# Altium footprint library MENTOR THD.PcbLib: 8 footprints
Each footprint in its own frame and in the unit in brackets; x right, y up, seen from the top. Pads: shape width x height; smd on the part's side, far side on the other; paste and mask are expansions set on the pad; w line width, h text height; cw(c..) or ccw(c..) is an arc to the next point about the centre after c.
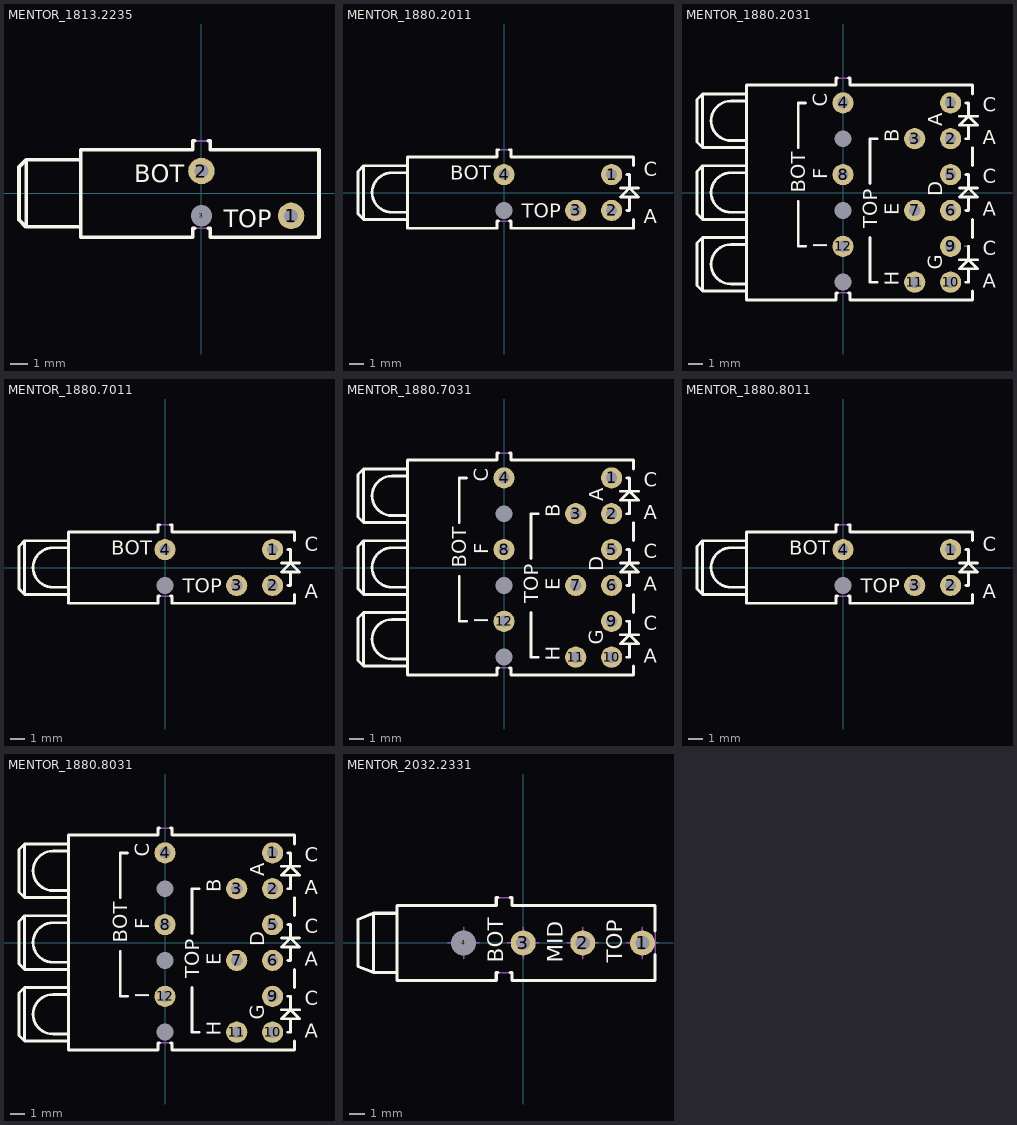
[diagram p0: the footprints below, top view; thin cyan lines are the x and y axes]

## MENTOR_1813.2235 [mm] "2 x Right Angled Test Jack 2mm"
height 9.95
pads (3):
  round 1.5 hole 0.8: 1(5.08,-1.27) 2(0,1.27)
  round 0.5 hole 1.2 unplated mask+0.35: 3(0,-1.27)
Top Overlay:
  lines w0.2: -6.84,-1.9 -9.94,-1.9 ; -6.84,1.9 -9.94,1.9 ; -0.39,-1.975 -0.5,-1.975 -0.5,-2.475 -6.84,-2.475 -6.84,2.475 -0.5,2.475 -0.5,2.975 -0.39,2.975 ; 0.39,-1.975 0.5,-1.975 0.5,-2.475 6.66,-2.475 6.66,2.475 0.5,2.475 0.5,2.975 0.39,2.975 ; -9.94,-1.9 -9.94,1.9 ; -9.94,-1.9 -10.34,-1.5 -10.34,1.5 -9.94,1.9
  text "TOP" at 1.27,-1.905 h1
  text "BOT" at -3.81,0.635 h1
Mechanical 14:
  lines w0.1: -6.84,-1.9 -9.94,-1.9 ; -6.84,1.9 -9.94,1.9 ; -9.94,-1.9 -9.94,1.9 ; -9.94,-1.9 -10.34,-1.5 -10.34,1.5 -9.94,1.9 ; -0.5,2.975 0.5,2.975 ; -0.5,2.975 -0.5,2.475 -6.84,2.475 -6.84,-2.475 -0.5,-2.475 -0.5,-1.975 0.5,-1.975 0.5,-2.475 6.66,-2.475 6.66,2.475 0.5,2.475 0.5,2.975 ; -0.5,2.975 0.5,2.975
3D body "MENTOR_1813.2235.stp": height 9.95, standoff -3.2, extent -10.3,-2.4 6.7,3.05

## MENTOR_1880.2011 [mm] "2 x Test Jack 2mm + 1 x Red LED 3mm PCB Edge Mounting"
height 15
pads (5):
  round 1.5 hole 0.8: 1(7.62,1.27) 2(7.62,-1.27) 3(5.08,-1.27) 4(0,1.27)
  round 0.5 hole 1.2 unplated mask+0.35: 5(0,-1.27)
Top Overlay:
  lines w0.2: -6.84,-1.9 -9.94,-1.9 ; -6.84,-1.4 -7.94,-1.4 cw(c-7.94,0) -7.94,1.4 -6.84,1.4 ; -6.84,1.9 -9.94,1.9 ; -0.39,-2.025 -0.5,-2.025 -0.5,-2.525 -6.84,-2.525 -6.84,2.525 -0.5,2.525 -0.5,3.025 -0.39,3.025 ; 0.39,-2.025 0.5,-2.025 0.5,-2.525 9.16,-2.525 9.16,-1.905 ; 0.39,3.025 0.5,3.025 0.5,2.525 9.16,2.525 9.16,1.905 ; 8.255,0.318 9.525,0.318 ; 8.72,-1.27 8.89,-1.27 8.89,-0.318 ; 8.72,1.27 8.89,1.27 8.89,0.318 ; -9.94,-1.9 -9.94,1.9 ; -9.94,-1.9 -10.34,-1.5 -10.34,1.5 -9.94,1.9 ; 8.89,0.318 8.255,-0.318 9.525,-0.318 8.89,0.318
  text "BOT" at -3.81,0.889 h1
  text "TOP" at 1.27,-1.778 h1
  text "A" at 9.906,-2.159 h1
  text "C" at 9.906,1.143 h1
Mechanical 14:
  lines w0.1: -6.84,-1.9 -9.94,-1.9 ; -6.84,1.9 -9.94,1.9 ; 8.255,0.318 9.525,0.318 ; 8.573,-1.27 8.89,-1.27 ; 8.573,1.27 8.89,1.27 8.89,0.318 ; 8.62,-1.27 8.89,-1.27 ; 8.89,-0.318 8.89,-1.27 ; 9.16,-1.905 9.16,-2.525 0.5,-2.525 0.5,-2.025 -0.5,-2.025 -0.5,-2.525 -6.84,-2.525 -6.84,2.525 -0.5,2.525 -0.5,3.025 0.5,3.025 0.5,2.525 9.16,2.525 9.16,1.905 ; -9.94,-1.9 -9.94,1.9 ; -9.94,-1.9 -10.34,-1.5 -10.34,1.5 -9.94,1.9 ; -7.94,-1.4 cw(c-7.94,0) -7.94,1.4 ; -7.94,-1.4 -6.84,-1.4 -7.94,-1.4 ; -7.94,1.4 -6.84,1.4 -7.94,1.4 ; 8.89,0.318 8.255,-0.318 9.525,-0.318 8.89,0.318
  text "A" at 9.906,-2.159 h1
  text "TOP" at 1.27,-1.778 h1
  text "BOT" at -3.81,0.889 h1
  text "C" at 9.906,1.143 h1
3D body "MENTOR_1880.2011.stp": height 15, standoff -3.2, extent -10.3,-2.575 9.2,2.975

## MENTOR_1880.2031 [mm] "6 x Test Jack 2mm + 3 x Red LED 3mm PCB Edge Mounting"
height 15
pads (15):
  round 1.5 hole 0.8: 1(7.62,6.35) 2(7.62,3.81) 3(5.08,3.81) 4(0,6.35) 5(7.62,1.27) 6(7.62,-1.27) 7(5.08,-1.27) 8(0,1.27) 9(7.62,-3.81) 10(7.62,-6.35) 11(5.08,-6.35) 12(0,-3.81)
  round 0.5 hole 1.2 unplated mask+0.35: 13(0,3.81) 14(0,-1.27) 15(0,-6.35)
Top Overlay:
  lines w0.2: -6.84,-6.98 -9.94,-6.98 ; -6.84,-6.48 -7.94,-6.48 cw(c-7.94,-5.08) -7.94,-3.68 -6.84,-3.68 ; -6.84,-3.18 -9.94,-3.18 ; -6.84,-1.9 -9.94,-1.9 ; -6.84,-1.4 -7.94,-1.4 cw(c-7.94,0) -7.94,1.4 -6.84,1.4 ; -6.84,1.9 -9.94,1.9 ; -6.84,3.18 -9.94,3.18 ; -6.84,3.68 -7.94,3.68 cw(c-7.94,5.08) -7.94,6.48 -6.84,6.48 ; -6.84,6.98 -9.94,6.98 ; -3.175,-0.635 -3.175,-3.81 -2.667,-3.81 ; -3.175,3.175 -3.175,6.35 -2.667,6.35 ; -0.39,-7.105 -0.5,-7.105 -0.5,-7.605 -6.84,-7.605 -6.84,7.605 -0.5,7.605 -0.5,8.105 -0.39,8.105 ; 0.39,-7.105 0.5,-7.105 0.5,-7.605 9.16,-7.605 9.16,-6.985 ; 0.39,8.105 0.5,8.105 0.5,7.605 9.16,7.605 9.16,6.985 ; 1.905,-3.175 1.905,-6.35 2.413,-6.35 ; 1.905,0.635 1.905,3.81 2.413,3.81 ; 8.255,-4.762 9.525,-4.762 ; 8.255,0.318 9.525,0.318 ; 8.255,5.398 9.525,5.398 ; 8.72,-6.35 8.89,-6.35 8.89,-5.398 ; 8.72,-1.27 8.89,-1.27 8.89,-0.318 ; 8.72,1.27 8.89,1.27 8.89,0.318 ; 8.72,3.81 8.89,3.81 8.89,4.762 ; 8.72,6.35 8.89,6.35 8.89,5.398 ; 8.89,-3.81 8.89,-4.762 ; 9.16,-3.175 9.16,-1.905 ; 9.16,1.905 9.16,3.175 ; -9.94,-6.98 -9.94,-3.18 ; -9.94,-6.98 -10.34,-6.58 -10.34,-3.58 -9.94,-3.18 ; -9.94,-1.9 -10.34,-1.5 -10.34,1.5 -9.94,1.9 ; -9.94,-1.9 -9.94,1.9 ; -9.94,3.18 -9.94,6.98 ; -9.94,3.18 -10.34,3.58 -10.34,6.58 -9.94,6.98 ; 8.89,-4.762 8.255,-5.398 9.525,-5.398 8.89,-4.762 ; 8.89,0.318 9.525,-0.318 8.255,-0.318 8.89,0.318 ; 8.89,5.398 8.255,4.762 9.525,4.762 8.89,5.398
  text "BOT" at -2.667,0 h1
  text "C" at -1.116,6.091 h1
  text "I" at -1.116,-3.942 h1
  text "F" at -1.116,0.932 h1
  text "C" at 9.906,0.643 h1
  text "A" at 9.906,-1.659 h1
  text "E" at 3.964,-1.608 h1
  text "H" at 3.964,-6.609 h1
  text "A" at 9.906,-6.739 h1
  text "C" at 9.906,-4.437 h1
  text "B" at 3.964,3.551 h1
  text "A" at 9.906,3.421 h1
  text "C" at 9.906,5.723 h1
  text "A" at 7.012,4.695 h1
  text "D" at 7.012,-0.258 h1
  text "G" at 7.012,-5.465 h1
  text "TOP" at 2.413,-2.54 h1
Mechanical 14:
  lines w0.1: -6.84,-6.98 -9.94,-6.98 ; -6.84,-3.18 -9.94,-3.18 ; -6.84,-1.9 -9.94,-1.9 ; -6.84,1.9 -9.94,1.9 ; -6.84,3.18 -9.94,3.18 ; -6.84,6.98 -9.94,6.98 ; -3.175,-0.635 -3.175,-3.81 -2.667,-3.81 ; -3.175,3.175 -3.175,6.35 -2.667,6.35 ; 1.905,-3.175 1.905,-6.35 2.413,-6.35 ; 1.905,0.635 1.905,3.81 2.413,3.81 ; 8.255,-4.762 9.525,-4.762 ; 8.255,0.318 9.525,0.318 ; 8.255,5.398 9.525,5.398 ; 8.573,-6.35 8.89,-6.35 ; 8.573,-3.81 8.89,-3.81 8.89,-4.762 ; 8.573,-1.27 8.89,-1.27 ; 8.573,1.27 8.89,1.27 8.89,0.318 ; 8.573,3.81 8.89,3.81 ; 8.573,6.35 8.89,6.35 8.89,5.398 ; 8.62,-6.35 8.89,-6.35 ; 8.62,-1.27 8.89,-1.27 ; 8.62,3.81 8.89,3.81 ; 8.89,-5.398 8.89,-6.35 ; 8.89,-0.318 8.89,-1.27 ; 8.89,4.762 8.89,3.81 ; 9.16,-6.985 9.16,-7.605 0.5,-7.605 0.5,-7.105 -0.5,-7.105 -0.5,-7.605 -6.84,-7.605 -6.84,7.605 -0.5,7.605 -0.5,8.105 0.5,8.105 0.5,7.605 9.16,7.605 9.16,6.985 ; 9.16,-3.175 9.16,-1.905 ; 9.16,1.905 9.16,3.175 ; -9.94,-6.98 -9.94,-3.18 ; -9.94,-6.98 -10.34,-6.58 -10.34,-3.58 -9.94,-3.18 ; -9.94,-1.9 -10.34,-1.5 -10.34,1.5 -9.94,1.9 ; -9.94,-1.9 -9.94,1.9 ; -9.94,3.18 -9.94,6.98 ; -9.94,3.18 -10.34,3.58 -10.34,6.58 -9.94,6.98 ; -7.94,-6.48 cw(c-7.94,-5.08) -7.94,-3.68 ; -7.94,-6.48 -6.84,-6.48 -7.94,-6.48 ; -7.94,-3.68 -6.84,-3.68 -7.94,-3.68 ; -7.94,-1.4 cw(c-7.94,0) -7.94,1.4 ; -7.94,-1.4 -6.84,-1.4 -7.94,-1.4 ; -7.94,1.4 -6.84,1.4 -7.94,1.4 ; -7.94,3.68 cw(c-7.94,5.08) -7.94,6.48 ; -7.94,3.68 -6.84,3.68 -7.94,3.68 ; -7.94,6.48 -6.84,6.48 -7.94,6.48 ; 8.89,-4.762 8.255,-5.398 9.525,-5.398 8.89,-4.762 ; 8.89,0.318 9.525,-0.318 8.255,-0.318 8.89,0.318 ; 8.89,5.398 8.255,4.762 9.525,4.762 8.89,5.398
  text "BOT" at -2.667,0 h1
  text "C" at -1.116,6.091 h1
  text "I" at -1.116,-3.942 h1
  text "F" at -1.116,0.932 h1
  text "E" at 3.964,-1.608 h1
  text "A" at 9.906,-1.659 h1
  text "C" at 9.906,0.643 h1
  text "C" at 9.906,-4.437 h1
  text "A" at 9.906,-6.739 h1
  text "H" at 3.964,-6.609 h1
  text "C" at 9.906,5.723 h1
  text "A" at 9.906,3.421 h1
  text "B" at 3.964,3.551 h1
  text "A" at 7.012,4.695 h1
  text "D" at 7.012,-0.258 h1
  text "G" at 7.012,-5.465 h1
  text "TOP" at 2.413,-2.54 h1
3D body "MENTOR_1880.2031.stp": height 15, standoff -3.1, extent -10.34,-7.6 9.16,8.1

## MENTOR_1880.7011 [mm] "2 x Test Jack 2mm + 1 x Yellow LED 3mm PCB Edge Mounting"
height 15
pads (5):
  round 1.5 hole 0.8: 1(7.62,1.27) 2(7.62,-1.27) 3(5.08,-1.27) 4(0,1.27)
  round 0.5 hole 1.2 unplated mask+0.35: 5(0,-1.27)
Top Overlay:
  lines w0.2: -6.84,-1.9 -9.94,-1.9 ; -6.84,-1.4 -7.94,-1.4 cw(c-7.94,0) -7.94,1.4 -6.84,1.4 ; -6.84,1.9 -9.94,1.9 ; -0.39,-2.025 -0.5,-2.025 -0.5,-2.525 -6.84,-2.525 -6.84,2.525 -0.5,2.525 -0.5,3.025 -0.39,3.025 ; 0.39,-2.025 0.5,-2.025 0.5,-2.525 9.16,-2.525 9.16,-1.905 ; 0.39,3.025 0.5,3.025 0.5,2.525 9.16,2.525 9.16,1.905 ; 8.255,0.318 9.525,0.318 ; 8.72,-1.27 8.89,-1.27 8.89,-0.318 ; 8.72,1.27 8.89,1.27 8.89,0.318 ; -9.94,-1.9 -9.94,1.9 ; -9.94,-1.9 -10.34,-1.5 -10.34,1.5 -9.94,1.9 ; 8.89,0.318 8.255,-0.318 9.525,-0.318 8.89,0.318
  text "BOT" at -3.81,0.889 h1
  text "TOP" at 1.27,-1.778 h1
  text "A" at 9.906,-2.159 h1
  text "C" at 9.906,1.143 h1
Mechanical 14:
  lines w0.1: -6.84,-1.9 -9.94,-1.9 ; -6.84,1.9 -9.94,1.9 ; 8.255,0.318 9.525,0.318 ; 8.573,-1.27 8.89,-1.27 ; 8.573,1.27 8.89,1.27 8.89,0.318 ; 8.62,-1.27 8.89,-1.27 ; 8.89,-0.318 8.89,-1.27 ; 9.16,-1.905 9.16,-2.525 0.5,-2.525 0.5,-2.025 -0.5,-2.025 -0.5,-2.525 -6.84,-2.525 -6.84,2.525 -0.5,2.525 -0.5,3.025 0.5,3.025 0.5,2.525 9.16,2.525 9.16,1.905 ; -9.94,-1.9 -9.94,1.9 ; -9.94,-1.9 -10.34,-1.5 -10.34,1.5 -9.94,1.9 ; -7.94,-1.4 cw(c-7.94,0) -7.94,1.4 ; -7.94,-1.4 -6.84,-1.4 -7.94,-1.4 ; -7.94,1.4 -6.84,1.4 -7.94,1.4 ; 8.89,0.318 8.255,-0.318 9.525,-0.318 8.89,0.318
  text "A" at 9.906,-2.159 h1
  text "TOP" at 1.27,-1.778 h1
  text "BOT" at -3.81,0.889 h1
  text "C" at 9.906,1.143 h1
3D body "MENTOR_1880.7011.stp": height 15, standoff -3.2, extent -10.3,-2.575 9.2,2.975

## MENTOR_1880.7031 [mm] "6 x Test Jack 2mm + 3 x Yellow LED 3mm PCB Edge Mounting"
height 15
pads (15):
  round 1.5 hole 0.8: 1(7.62,6.35) 2(7.62,3.81) 3(5.08,3.81) 4(0,6.35) 5(7.62,1.27) 6(7.62,-1.27) 7(5.08,-1.27) 8(0,1.27) 9(7.62,-3.81) 10(7.62,-6.35) 11(5.08,-6.35) 12(0,-3.81)
  round 0.5 hole 1.2 unplated mask+0.35: 13(0,3.81) 14(0,-1.27) 15(0,-6.35)
Top Overlay:
  lines w0.2: -6.84,-6.98 -9.94,-6.98 ; -6.84,-6.48 -7.94,-6.48 cw(c-7.94,-5.08) -7.94,-3.68 -6.84,-3.68 ; -6.84,-3.18 -9.94,-3.18 ; -6.84,-1.9 -9.94,-1.9 ; -6.84,-1.4 -7.94,-1.4 cw(c-7.94,0) -7.94,1.4 -6.84,1.4 ; -6.84,1.9 -9.94,1.9 ; -6.84,3.18 -9.94,3.18 ; -6.84,3.68 -7.94,3.68 cw(c-7.94,5.08) -7.94,6.48 -6.84,6.48 ; -6.84,6.98 -9.94,6.98 ; -3.175,-0.635 -3.175,-3.81 -2.667,-3.81 ; -3.175,3.175 -3.175,6.35 -2.667,6.35 ; -0.39,-7.105 -0.5,-7.105 -0.5,-7.605 -6.84,-7.605 -6.84,7.605 -0.5,7.605 -0.5,8.105 -0.39,8.105 ; 0.39,-7.105 0.5,-7.105 0.5,-7.605 9.16,-7.605 9.16,-6.985 ; 0.39,8.105 0.5,8.105 0.5,7.605 9.16,7.605 9.16,6.985 ; 1.905,-3.175 1.905,-6.35 2.413,-6.35 ; 1.905,0.635 1.905,3.81 2.413,3.81 ; 8.255,-4.762 9.525,-4.762 ; 8.255,0.318 9.525,0.318 ; 8.255,5.398 9.525,5.398 ; 8.72,-6.35 8.89,-6.35 8.89,-5.398 ; 8.72,-3.81 8.89,-3.81 8.89,-4.762 ; 8.72,-1.27 8.89,-1.27 8.89,-0.318 ; 8.72,1.27 8.89,1.27 8.89,0.318 ; 8.72,3.81 8.89,3.81 8.89,4.762 ; 8.72,6.35 8.89,6.35 8.89,5.398 ; 9.16,-3.175 9.16,-1.905 ; 9.16,1.905 9.16,3.175 ; -9.94,-6.98 -9.94,-3.18 ; -9.94,-6.98 -10.34,-6.58 -10.34,-3.58 -9.94,-3.18 ; -9.94,-1.9 -10.34,-1.5 -10.34,1.5 -9.94,1.9 ; -9.94,-1.9 -9.94,1.9 ; -9.94,3.18 -9.94,6.98 ; -9.94,3.18 -10.34,3.58 -10.34,6.58 -9.94,6.98 ; 8.89,-4.762 8.255,-5.398 9.525,-5.398 8.89,-4.762 ; 8.89,0.318 9.525,-0.318 8.255,-0.318 8.89,0.318 ; 8.89,5.398 8.255,4.762 9.525,4.762 8.89,5.398
  text "BOT" at -2.667,0 h1
  text "C" at -1.116,6.091 h1
  text "I" at -1.116,-3.942 h1
  text "F" at -1.116,0.932 h1
  text "C" at 9.906,0.643 h1
  text "A" at 9.906,-1.659 h1
  text "E" at 3.964,-1.608 h1
  text "H" at 3.964,-6.609 h1
  text "A" at 9.906,-6.739 h1
  text "C" at 9.906,-4.437 h1
  text "B" at 3.964,3.551 h1
  text "A" at 9.906,3.421 h1
  text "C" at 9.906,5.723 h1
  text "A" at 7.012,4.695 h1
  text "D" at 7.012,-0.258 h1
  text "G" at 7.012,-5.465 h1
  text "TOP" at 2.413,-2.54 h1
Mechanical 14:
  lines w0.1: -6.84,-6.98 -9.94,-6.98 ; -6.84,-3.18 -9.94,-3.18 ; -6.84,-1.9 -9.94,-1.9 ; -6.84,1.9 -9.94,1.9 ; -6.84,3.18 -9.94,3.18 ; -6.84,6.98 -9.94,6.98 ; -3.175,-0.635 -3.175,-3.81 -2.667,-3.81 ; -3.175,3.175 -3.175,6.35 -2.667,6.35 ; 1.905,-3.175 1.905,-6.35 2.413,-6.35 ; 1.905,0.635 1.905,3.81 2.413,3.81 ; 8.255,-4.762 9.525,-4.762 ; 8.255,0.318 9.525,0.318 ; 8.255,5.398 9.525,5.398 ; 8.573,-6.35 8.89,-6.35 ; 8.573,-3.81 8.89,-3.81 8.89,-4.762 ; 8.573,-1.27 8.89,-1.27 ; 8.573,1.27 8.89,1.27 8.89,0.318 ; 8.573,3.81 8.89,3.81 ; 8.573,6.35 8.89,6.35 8.89,5.398 ; 8.62,-6.35 8.89,-6.35 ; 8.62,-1.27 8.89,-1.27 ; 8.62,3.81 8.89,3.81 ; 8.89,-5.398 8.89,-6.35 ; 8.89,-0.318 8.89,-1.27 ; 8.89,4.762 8.89,3.81 ; 9.16,-6.985 9.16,-7.605 0.5,-7.605 0.5,-7.105 -0.5,-7.105 -0.5,-7.605 -6.84,-7.605 -6.84,7.605 -0.5,7.605 -0.5,8.105 0.5,8.105 0.5,7.605 9.16,7.605 9.16,6.985 ; 9.16,-3.175 9.16,-1.905 ; 9.16,1.905 9.16,3.175 ; -9.94,-6.98 -9.94,-3.18 ; -9.94,-6.98 -10.34,-6.58 -10.34,-3.58 -9.94,-3.18 ; -9.94,-1.9 -10.34,-1.5 -10.34,1.5 -9.94,1.9 ; -9.94,-1.9 -9.94,1.9 ; -9.94,3.18 -9.94,6.98 ; -9.94,3.18 -10.34,3.58 -10.34,6.58 -9.94,6.98 ; -7.94,-6.48 cw(c-7.94,-5.08) -7.94,-3.68 ; -7.94,-6.48 -6.84,-6.48 -7.94,-6.48 ; -7.94,-3.68 -6.84,-3.68 -7.94,-3.68 ; -7.94,-1.4 cw(c-7.94,0) -7.94,1.4 ; -7.94,-1.4 -6.84,-1.4 -7.94,-1.4 ; -7.94,1.4 -6.84,1.4 -7.94,1.4 ; -7.94,3.68 cw(c-7.94,5.08) -7.94,6.48 ; -7.94,3.68 -6.84,3.68 -7.94,3.68 ; -7.94,6.48 -6.84,6.48 -7.94,6.48 ; 8.89,-4.762 8.255,-5.398 9.525,-5.398 8.89,-4.762 ; 8.89,0.318 9.525,-0.318 8.255,-0.318 8.89,0.318 ; 8.89,5.398 8.255,4.762 9.525,4.762 8.89,5.398
  text "BOT" at -2.667,0 h1
  text "C" at -1.116,6.091 h1
  text "I" at -1.116,-3.942 h1
  text "F" at -1.116,0.932 h1
  text "E" at 3.964,-1.608 h1
  text "A" at 9.906,-1.659 h1
  text "C" at 9.906,0.643 h1
  text "C" at 9.906,-4.437 h1
  text "A" at 9.906,-6.739 h1
  text "H" at 3.964,-6.609 h1
  text "C" at 9.906,5.723 h1
  text "A" at 9.906,3.421 h1
  text "B" at 3.964,3.551 h1
  text "A" at 7.012,4.695 h1
  text "D" at 7.012,-0.258 h1
  text "G" at 7.012,-5.465 h1
  text "TOP" at 2.413,-2.54 h1
3D body "MENTOR_1880.7031.stp": height 15, standoff -3.1, extent -10.34,-7.6 9.16,8.1

## MENTOR_1880.8011 [mm] "2 x Test Jack 2mm + 1 x Green LED 3mm PCB Edge Mounting"
height 15
pads (5):
  round 1.5 hole 0.8: 1(7.62,1.27) 2(7.62,-1.27) 3(5.08,-1.27) 4(0,1.27)
  round 0.5 hole 1.2 unplated mask+0.35: 5(0,-1.27)
Top Overlay:
  lines w0.2: -6.84,-1.9 -9.94,-1.9 ; -6.84,-1.4 -7.94,-1.4 cw(c-7.94,0) -7.94,1.4 -6.84,1.4 ; -6.84,1.9 -9.94,1.9 ; -0.39,-2.025 -0.5,-2.025 -0.5,-2.525 -6.84,-2.525 -6.84,2.525 -0.5,2.525 -0.5,3.025 -0.39,3.025 ; 0.39,-2.025 0.5,-2.025 0.5,-2.525 9.16,-2.525 9.16,-1.905 ; 0.39,3.025 0.5,3.025 0.5,2.525 9.16,2.525 9.16,1.905 ; 8.255,0.318 9.525,0.318 ; 8.72,-1.27 8.89,-1.27 8.89,-0.318 ; 8.72,1.27 8.89,1.27 8.89,0.318 ; -9.94,-1.9 -9.94,1.9 ; -9.94,-1.9 -10.34,-1.5 -10.34,1.5 -9.94,1.9 ; 8.89,0.318 8.255,-0.318 9.525,-0.318 8.89,0.318
  text "BOT" at -3.81,0.889 h1
  text "TOP" at 1.27,-1.778 h1
  text "A" at 9.906,-2.159 h1
  text "C" at 9.906,1.143 h1
Mechanical 14:
  lines w0.1: -6.84,-1.9 -9.94,-1.9 ; -6.84,1.9 -9.94,1.9 ; 8.255,0.318 9.525,0.318 ; 8.573,-1.27 8.89,-1.27 ; 8.573,1.27 8.89,1.27 8.89,0.318 ; 8.62,-1.27 8.89,-1.27 ; 8.89,-0.318 8.89,-1.27 ; 9.16,-1.905 9.16,-2.525 0.5,-2.525 0.5,-2.025 -0.5,-2.025 -0.5,-2.525 -6.84,-2.525 -6.84,2.525 -0.5,2.525 -0.5,3.025 0.5,3.025 0.5,2.525 9.16,2.525 9.16,1.905 ; -9.94,-1.9 -9.94,1.9 ; -9.94,-1.9 -10.34,-1.5 -10.34,1.5 -9.94,1.9 ; -7.94,-1.4 cw(c-7.94,0) -7.94,1.4 ; -7.94,-1.4 -6.84,-1.4 -7.94,-1.4 ; -7.94,1.4 -6.84,1.4 -7.94,1.4 ; 8.89,0.318 8.255,-0.318 9.525,-0.318 8.89,0.318
  text "A" at 9.906,-2.159 h1
  text "TOP" at 1.27,-1.778 h1
  text "BOT" at -3.81,0.889 h1
  text "C" at 9.906,1.143 h1
3D body "MENTOR_1880.8011.stp": height 15, standoff -3.2, extent -10.3,-2.575 9.2,2.975

## MENTOR_1880.8031 [mm] "6 x Test Jack 2mm + 3 x Green LED 3mm PCB Edge Mounting"
height 15
pads (15):
  round 1.5 hole 0.8: 1(7.62,6.35) 2(7.62,3.81) 3(5.08,3.81) 4(0,6.35) 5(7.62,1.27) 6(7.62,-1.27) 7(5.08,-1.27) 8(0,1.27) 9(7.62,-3.81) 10(7.62,-6.35) 11(5.08,-6.35) 12(0,-3.81)
  round 0.5 hole 1.2 unplated mask+0.35: 13(0,3.81) 14(0,-1.27) 15(0,-6.35)
Top Overlay:
  lines w0.2: -6.84,-6.98 -9.94,-6.98 ; -6.84,-6.48 -7.94,-6.48 cw(c-7.94,-5.08) -7.94,-3.68 -6.84,-3.68 ; -6.84,-3.18 -9.94,-3.18 ; -6.84,-1.9 -9.94,-1.9 ; -6.84,-1.4 -7.94,-1.4 cw(c-7.94,0) -7.94,1.4 -6.84,1.4 ; -6.84,1.9 -9.94,1.9 ; -6.84,3.18 -9.94,3.18 ; -6.84,3.68 -7.94,3.68 cw(c-7.94,5.08) -7.94,6.48 -6.84,6.48 ; -6.84,6.98 -9.94,6.98 ; -3.175,-0.635 -3.175,-3.81 -2.667,-3.81 ; -3.175,3.175 -3.175,6.35 -2.667,6.35 ; -0.39,-7.105 -0.5,-7.105 -0.5,-7.605 -6.84,-7.605 -6.84,7.605 -0.5,7.605 -0.5,8.105 -0.39,8.105 ; 0.39,-7.105 0.5,-7.105 0.5,-7.605 9.16,-7.605 9.16,-6.985 ; 0.39,8.105 0.5,8.105 0.5,7.605 9.16,7.605 9.16,6.985 ; 1.905,-3.175 1.905,-6.35 2.413,-6.35 ; 1.905,0.635 1.905,3.81 2.413,3.81 ; 8.255,-4.762 9.525,-4.762 ; 8.255,0.318 9.525,0.318 ; 8.255,5.398 9.525,5.398 ; 8.72,-6.35 8.89,-6.35 8.89,-5.398 ; 8.72,-3.81 8.89,-3.81 8.89,-4.762 ; 8.72,-1.27 8.89,-1.27 8.89,-0.318 ; 8.72,1.27 8.89,1.27 8.89,0.318 ; 8.72,3.81 8.89,3.81 8.89,4.762 ; 8.72,6.35 8.89,6.35 8.89,5.398 ; 9.16,-3.175 9.16,-1.905 ; 9.16,1.905 9.16,3.175 ; -9.94,-6.98 -9.94,-3.18 ; -9.94,-6.98 -10.34,-6.58 -10.34,-3.58 -9.94,-3.18 ; -9.94,-1.9 -10.34,-1.5 -10.34,1.5 -9.94,1.9 ; -9.94,-1.9 -9.94,1.9 ; -9.94,3.18 -9.94,6.98 ; -9.94,3.18 -10.34,3.58 -10.34,6.58 -9.94,6.98 ; 8.89,-4.762 8.255,-5.398 9.525,-5.398 8.89,-4.762 ; 8.89,0.318 9.525,-0.318 8.255,-0.318 8.89,0.318 ; 8.89,5.398 8.255,4.762 9.525,4.762 8.89,5.398
  text "BOT" at -2.667,0 h1
  text "C" at -1.116,6.091 h1
  text "I" at -1.116,-3.942 h1
  text "F" at -1.116,0.932 h1
  text "C" at 9.906,0.643 h1
  text "A" at 9.906,-1.659 h1
  text "E" at 3.964,-1.608 h1
  text "H" at 3.964,-6.609 h1
  text "A" at 9.906,-6.739 h1
  text "C" at 9.906,-4.437 h1
  text "B" at 3.964,3.551 h1
  text "A" at 9.906,3.421 h1
  text "C" at 9.906,5.723 h1
  text "A" at 7.012,4.695 h1
  text "D" at 7.012,-0.258 h1
  text "G" at 7.012,-5.465 h1
  text "TOP" at 2.413,-2.54 h1
Mechanical 14:
  lines w0.1: -6.84,-6.98 -9.94,-6.98 ; -6.84,-3.18 -9.94,-3.18 ; -6.84,-1.9 -9.94,-1.9 ; -6.84,1.9 -9.94,1.9 ; -6.84,3.18 -9.94,3.18 ; -6.84,6.98 -9.94,6.98 ; -3.175,-0.635 -3.175,-3.81 -2.667,-3.81 ; -3.175,3.175 -3.175,6.35 -2.667,6.35 ; 1.905,-3.175 1.905,-6.35 2.413,-6.35 ; 1.905,0.635 1.905,3.81 2.413,3.81 ; 8.255,-4.762 9.525,-4.762 ; 8.255,0.318 9.525,0.318 ; 8.255,5.398 9.525,5.398 ; 8.573,-6.35 8.89,-6.35 ; 8.573,-3.81 8.89,-3.81 8.89,-4.762 ; 8.573,-1.27 8.89,-1.27 ; 8.573,1.27 8.89,1.27 8.89,0.318 ; 8.573,3.81 8.89,3.81 ; 8.573,6.35 8.89,6.35 8.89,5.398 ; 8.62,-6.35 8.89,-6.35 ; 8.62,-1.27 8.89,-1.27 ; 8.62,3.81 8.89,3.81 ; 8.89,-5.398 8.89,-6.35 ; 8.89,-0.318 8.89,-1.27 ; 8.89,4.762 8.89,3.81 ; 9.16,-6.985 9.16,-7.605 0.5,-7.605 0.5,-7.105 -0.5,-7.105 -0.5,-7.605 -6.84,-7.605 -6.84,7.605 -0.5,7.605 -0.5,8.105 0.5,8.105 0.5,7.605 9.16,7.605 9.16,6.985 ; 9.16,-3.175 9.16,-1.905 ; 9.16,1.905 9.16,3.175 ; -9.94,-6.98 -9.94,-3.18 ; -9.94,-6.98 -10.34,-6.58 -10.34,-3.58 -9.94,-3.18 ; -9.94,-1.9 -10.34,-1.5 -10.34,1.5 -9.94,1.9 ; -9.94,-1.9 -9.94,1.9 ; -9.94,3.18 -9.94,6.98 ; -9.94,3.18 -10.34,3.58 -10.34,6.58 -9.94,6.98 ; -7.94,-6.48 cw(c-7.94,-5.08) -7.94,-3.68 ; -7.94,-6.48 -6.84,-6.48 -7.94,-6.48 ; -7.94,-3.68 -6.84,-3.68 -7.94,-3.68 ; -7.94,-1.4 cw(c-7.94,0) -7.94,1.4 ; -7.94,-1.4 -6.84,-1.4 -7.94,-1.4 ; -7.94,1.4 -6.84,1.4 -7.94,1.4 ; -7.94,3.68 cw(c-7.94,5.08) -7.94,6.48 ; -7.94,3.68 -6.84,3.68 -7.94,3.68 ; -7.94,6.48 -6.84,6.48 -7.94,6.48 ; 8.89,-4.762 8.255,-5.398 9.525,-5.398 8.89,-4.762 ; 8.89,0.318 9.525,-0.318 8.255,-0.318 8.89,0.318 ; 8.89,5.398 8.255,4.762 9.525,4.762 8.89,5.398
  text "BOT" at -2.667,0 h1
  text "C" at -1.116,6.091 h1
  text "I" at -1.116,-3.942 h1
  text "F" at -1.116,0.932 h1
  text "E" at 3.964,-1.608 h1
  text "A" at 9.906,-1.659 h1
  text "C" at 9.906,0.643 h1
  text "C" at 9.906,-4.437 h1
  text "A" at 9.906,-6.739 h1
  text "H" at 3.964,-6.609 h1
  text "C" at 9.906,5.723 h1
  text "A" at 9.906,3.421 h1
  text "B" at 3.964,3.551 h1
  text "A" at 7.012,4.695 h1
  text "D" at 7.012,-0.258 h1
  text "G" at 7.012,-5.465 h1
  text "TOP" at 2.413,-2.54 h1
3D body "MENTOR_1880.8031.stp": height 15, standoff -3.1, extent -10.34,-7.6 9.16,8.1

## MENTOR_2032.2331 [mm] "3 x Right Angled Test Jack 2mm"
height 15.1
pads (4):
  round 1.6 hole 0.9: 1(7.62,0) 2(3.81,0) 3(0,0)
  round 0.5 hole 1.6 unplated mask+0.55: 4(-3.81,0)
Top Overlay:
  lines w0.2: -8.06,-1.9 -9.56,-1.9 ; -8.06,1.9 -9.56,1.9 ; -1.61,-1.9 -1.72,-1.9 -1.72,-2.4 -8.06,-2.4 -8.06,2.4 -1.72,2.4 -1.72,2.9 -1.61,2.9 ; -0.83,-1.9 -0.72,-1.9 -0.72,-2.4 8.44,-2.4 8.44,-0.75 ; -0.83,2.9 -0.72,2.9 -0.72,2.4 8.44,2.4 8.44,0.75 ; -9.56,-1.9 -9.56,1.9 ; -9.56,-1.9 -10.56,-1.5 -10.56,1.5 -9.56,1.9
  text "BOT" at -1.27,-1.27 h1
  text "TOP" at 6.35,-1.27 h1
  text "MID" at 2.54,-1.27 h1
Mechanical 8:
  lines w0.1: -4.81,0 -3.81,0 ; -3.81,-1 -3.81,0 ; -3.81,1 -3.81,0 ; -2.81,0 -3.81,0 ; -1,0 0,0 ; 0,-1 0,0 ; 0,1 0,0 ; 1,0 0,0 ; 2.81,0 3.81,0 ; 3.81,-1 3.81,0 ; 3.81,1 3.81,0 ; 4.81,0 3.81,0 ; 6.62,0 7.62,0 ; 7.62,-1 7.62,0 ; 7.62,1 7.62,0 ; 8.62,0 7.62,0
Mechanical 14:
  lines w0.1: -8.06,-1.9 -9.56,-1.9 ; -8.06,1.9 -9.56,1.9 ; -9.56,-1.9 -9.56,1.9 ; -9.56,-1.9 -10.56,-1.5 -10.56,1.5 -9.56,1.9 ; -8.06,-2.4 -8.06,2.4 -1.72,2.4 -1.72,2.9 -0.72,2.9 -0.72,2.4 8.44,2.4 8.44,-2.4 -0.72,-2.4 -0.72,-1.9 -1.72,-1.9 -1.72,-2.4 -8.06,-2.4
  text "TOP" at -1.27,-1.27 h1
  text "BOT" at 6.35,-1.27 h1
  text "MID" at 2.54,-1.27 h1
3D body "MENTOR_2032.2331.stp": height 15.1, standoff -3.2, extent -10.56,-2.4 8.44,2.9